# Altium footprint library VR.PcbLib: 1 footprints
Each footprint in its own frame and in the unit in brackets; x right, y up, seen from the top. Pads: shape width x height; smd on the part's side, far side on the other; paste and mask are expansions set on the pad; w line width, h text height; cw(c..) or ccw(c..) is an arc to the next point about the centre after c.
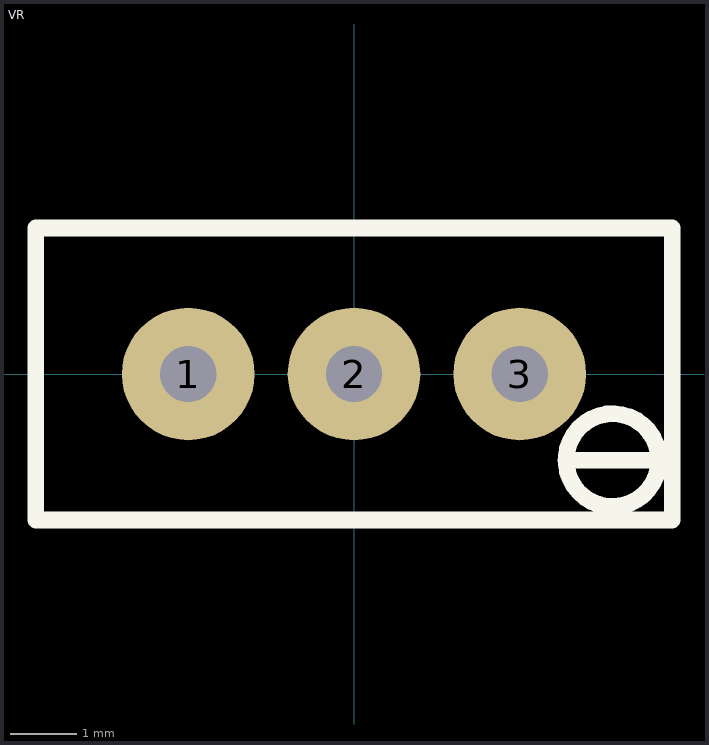
[diagram p0: the footprint, top view; thin cyan lines are the x and y axes]

## VR [mm] "VR"
pads (3):
  round 2 hole 0.85: 1(-2.5,0) 2(0,0) 3(2.5,0)
Top Overlay:
  circle w0.254: c3.9,-1.3 r0.7
  lines w0.254: 3.2,-1.3 4.6,-1.3 ; -4.8,-2.2 4.8,-2.2 4.8,2.2 -4.8,2.2 -4.8,-2.2